# Altium schematic symbol library ACS37002LLAATR-015B5.SchLib: 1 symbol
Pins are listed as number, name and electrical type; pins without a type are passive.

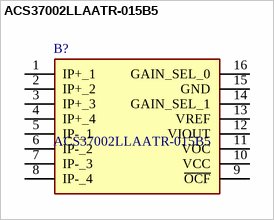
[diagram p0: symbol ACS37002LLAATR-015B5]

## ACS37002LLAATR-015B5
designator B?
400 kHz, High Accuracy Current Sensor with Pin-Selectable Gains; Manufacturer_Name: Allegro Microsystems; Geometry.Height: 2.65mm; Mouser Part Number: 250-37002LLAATR015B5; Mouser Price/Stock: https://www.mouser.co.uk/ProductDetail/Allegro-MicroSystems/ACS37002LLAATR-015B5?qs=vvQtp7zwQdNXxQ%2F%252Blf3Qug%3D%3D; Manufacturer_Part_Number: ACS37002LLAATR-015B5; Datasheet Link: https://www.allegromicro.com/-/media/files/datasheets/acs37002-datasheet.pdf?sc_lang=en
footprint SOIC127P1030X265-16N
pins: 1 IP+_1, 2 IP+_2, 3 IP+_3, 4 IP+_4, 5 IP-_1, 6 IP-_2, 7 IP-_3, 8 IP-_4, 9 ~{OCF}, 10 VCC, 11 VOC, 12 VIOUT, 13 VREF, 14 GAIN_SEL_1, 15 GND, 16 GAIN_SEL_0